# EAGLE library part SW_JOYSTICK (library mylib_20130829)
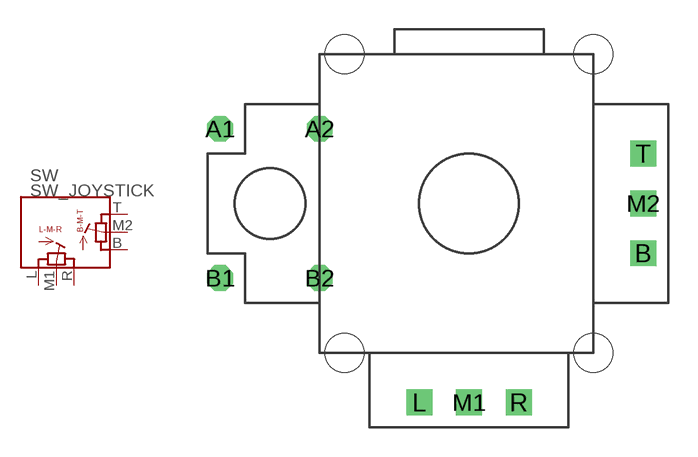
[diagram p38: symbol with the pads of SW_JOYSTICK; footprint SW_JOYSTICK]

Designator prefix SW

## SW_JOYSTICK  [SW_JOYSTICK]
B  B  pas
L  L  pas
M1  M1  pas
M2  M2  pas
R  R  pas
T  T  pas

## Footprint SW_JOYSTICK (pad centres in mm)
drill 0.813 octagon: A1 -12.7,3.81; A2 -7.62,3.81; B1 -12.7,-3.81; B2 -7.62,-3.81
drill 0.813 square: B 8.89,-2.54; L -2.54,-10.16; M1 0,-10.16; M2 8.89,0; R 2.54,-10.16; T 8.89,2.54
hole 2 at -6.35,7.62
hole 2 at 6.35,7.62
hole 2 at -6.35,-7.62
hole 2 at 6.35,-7.62